# EAGLE library part ISPHEADER (library lolomolo)
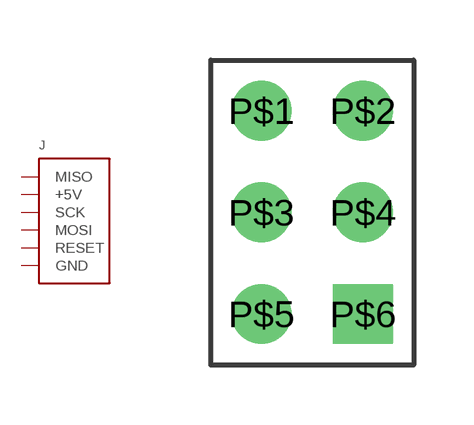
[diagram p6: symbol with the pads of 2X3PIN_.1'; footprint 2X3PIN_.1']

Designator prefix J

## ISPHEADER  [2X3PIN_.1']
P$1  MISO
P$2  +5V
P$3  SCK
P$4  MOSI
P$5  RESET
P$6  GND

## Footprint 2X3PIN_.1' (pad centres in mm)
drill 0.991: P$1 -1.27,1.27; P$2 1.27,1.27; P$3 -1.27,-1.27; P$4 1.27,-1.27; P$5 -1.27,-3.81
drill 0.991 square: P$6 1.27,-3.81